# Altium integrated library Analog Devices Data Converters Analog-to-Digital Converters.IntLib: 2404 symbols (part 101 of 346)
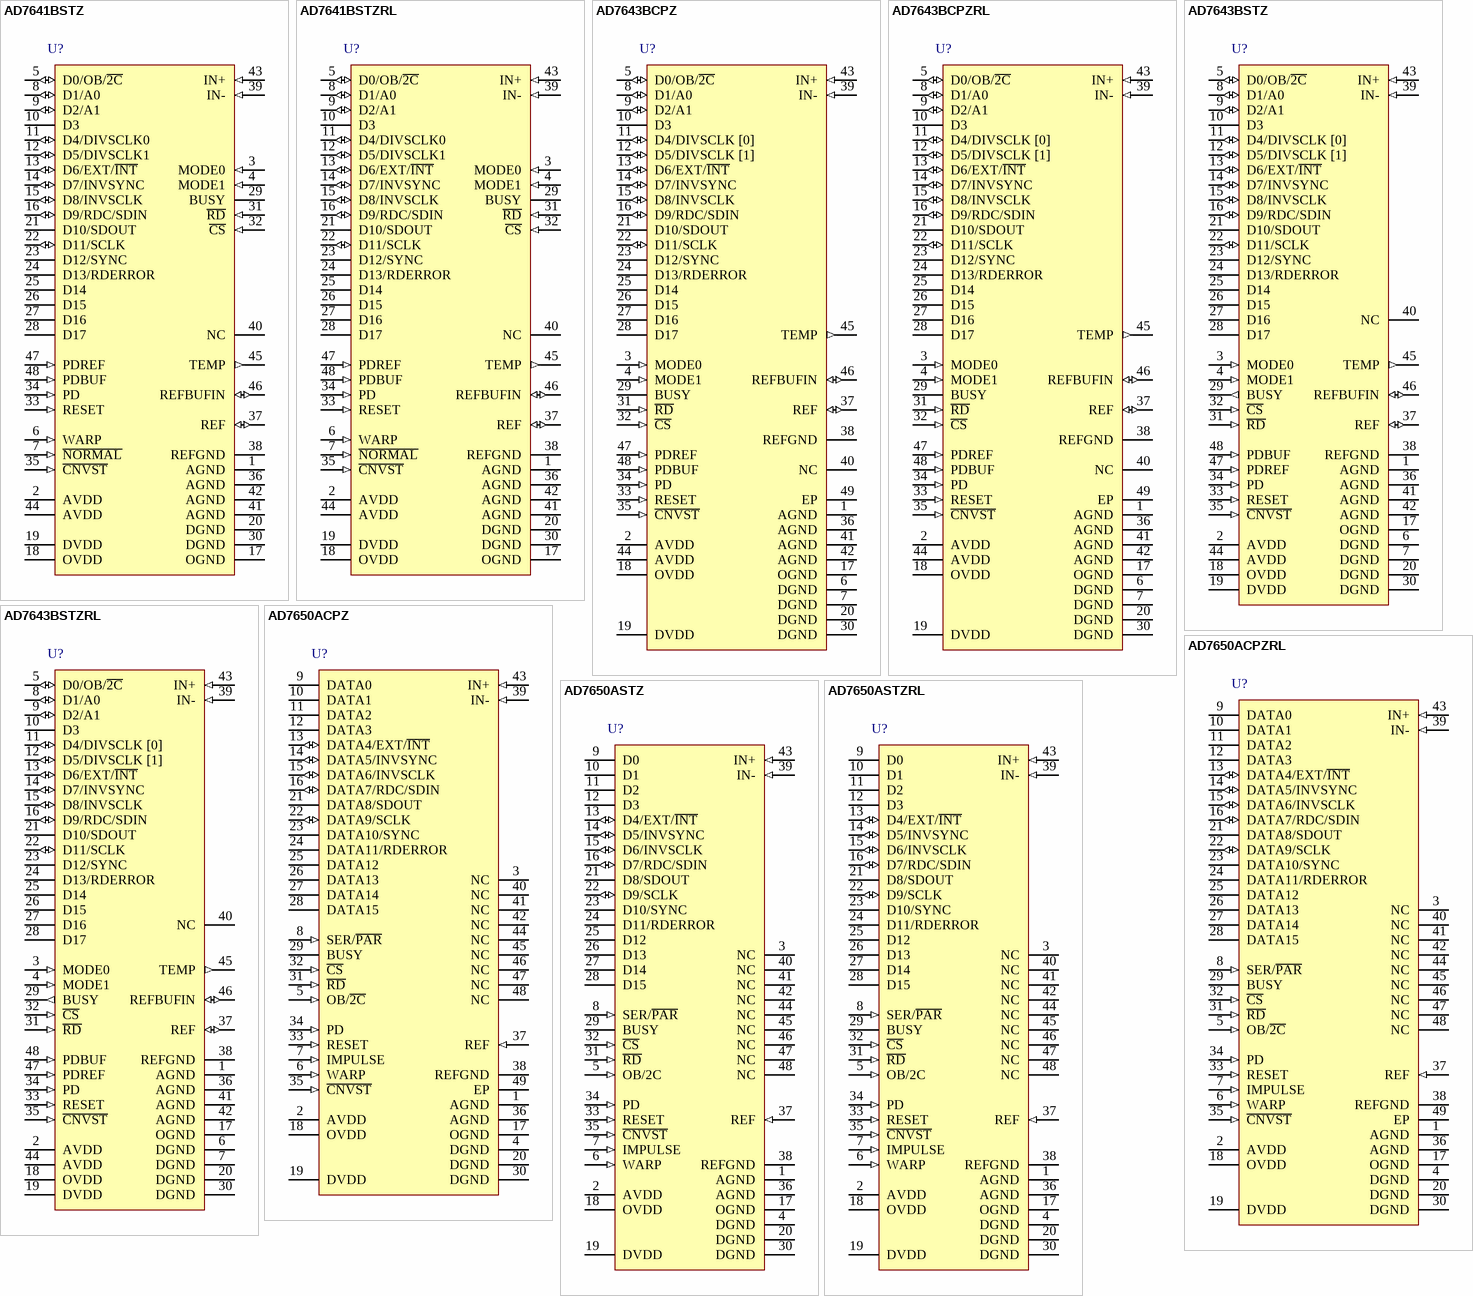
[diagram p212: symbols AD7641BSTZ to AD7650ASTZRL]

## AD7643BCPZ
designator U?
Single 18-Bit PulSAR Analog-to-Digital Converter with Byte, Parallel, Serial, SPI Interface, 1.25MSPS, -40 to +85 degC, CP-48-1, Pb-Free, Tray; Generic Part Number: AD7643; Manufacturer: Analog Devices; PartNumber: AD7643BCPZ; Resolution (Bits): 18; Channels: 1; Throughput Rate (SPS): 1.25M; Interface: Byte, Par, Ser, SPI; DatasheetVersion: Rev.0; PackageVersion: Jan-2005; PackageReference: CP-48-1; PackageDescription: 48-Lead Lead Frame Chip Scale Package [LFCSP_VQ] 7 x 7 mm Body, Very Thin Quad; Supplier 1: Digi-Key; Supplier Part Number 1: AD7643BCPZ-ND; Supplier 2: Newark; Supplier Part Number 2: 19M1195; Supplier 3: Mouser; Supplier Part Number 3: 584-AD7643BCPZ; RoHS: Y; Packing: Tray; Mounting Technology: Surface Mount; Code_JEDEC: MO-220-VKKD-2; ComponentLink1Description: Manufacturer URL; ComponentLink1URL: http://www.analog.com/en/index.html; ComponentLink2Description: Datasheet; ComponentLink2URL: http://www.analog.com/static/imported-files/data_sheets/AD7643.pdf; ComponentLink3Description: Package Specification; ComponentLink3URL: http://www.analog.com/static/imported-files/packages/PKG_PDF/LFCSP(CP)/CP-48/CP_48_1.pdf; ComponentLink4Description: Product URL; ComponentLink4URL: http://www.analog.com/en/analog-to-digital-converters/ad-converters/ad7643/products/product.html
footprint CP-48-1_N (QFN, 48-Leads, Body 7x7mm, Pitch 0.5mm, Thermal Pad 5.1x5.1mm, IPC Medium Density)
footprint CP-48-1_L (QFN, 48-Leads, Body 7x7mm, Pitch 0.5mm, Thermal Pad 5.1x5.1mm, IPC High Density)
footprint CP-48-1_M (QFN, 48-Leads, Body 7x7mm, Pitch 0.5mm, Thermal Pad 5.1x5.1mm, IPC Low Density)
pins: 1 AGND (power) "Analog Power Ground Pin.", 2 AVDD (power) "Input Analog Power Pins. Nominally 2.5 V.", 3 MODE0 (in) "Data Output Interface Mode Selection.", 4 MODE1 (in) "Data Output Interface Mode Selection.", 5 D0/OB/~{2C} (io) "When MODE[1:0] = 0 (18-bit interface mode), this pin is Bit 0 of the parallel port data output bus and the data coding is straight binary. In all other modes, this pin allows the choice of straight binary/twos complement. (See Datasheet)", 6 DGND (power) "Connect to Digital Ground.", 7 DGND (power) "Connect to Digital Ground.", 8 D1/A0 (io) "When MODE[1:0] = 0, this pin is Bit 1 of the parallel port data output bus. In all other modes, this input pin controls the form in which data is output as shown in Table 7.", 9 D2/A1 (io) "When MODE[1:0] = 0, this pin is Bit 2 of the parallel port data output bus.When MODE[1:0] = 1 or 2, this input pin controls the form in which data is output as shown in Table 7.", 10 D3 (hiz) "When MODE[1:0] = 0, 1, or 2, this output is used as Bit 3 of the parallel port data output bus. This pin is always an output, regardless of the interface mode.", 11 D4/DIVSCLK [0] (io) "When MODE[1:0] = 0, 1, or 2, these pins are Bit 4 and Bit 5 of the parallel port data output bus.When MODE[1:0] = 3 (serial mode), serial clock division selection. When using serial master read after convert mode (EXT/I\N\T\ (See Datasheet)", 12 D5/DIVSCLK [1] (io) "When MODE[1:0] = 0, 1, or 2, these pins are Bit 4 and Bit 5 of the parallel port data output bus.When MODE[1:0] = 3 (serial mode), serial clock division selection. When using serial master read after convert mode (EXT/I\N\T\ (See Datasheet)", 13 D6/EXT/~{INT} (io) "When MODE[1:0] = 0, 1, or 2, this output is used as Bit 6 of the parallel port data output bus.When MODE[1:0] = 3 (serial mode), serial clock source select. This input is used to select the internally generated (master) or (See Datasheet)", 14 D7/INVSYNC (io) "When MODE[1:0] = 0, 1, or 2, this output is used as Bit 7 of the parallel port data output bus.When MODE[1:0] = 3 (serial mode), invert sync select. In serial master mode (EXT/I\N\T\ = low), this input is used to select the (See Datasheet)", 15 D8/INVSCLK (io) "When MODE[1:0] = 0, 1, or 2, this output is used as Bit 8 of the parallel port data output bus.When MODE[1:0] = 3 (serial mode), invert SCLK select. In all serial modes, this input is used to invert the SCLK signal.", 16 D9/RDC/SDIN (io) "When MODE[1:0] = 0, 1, or 2, this output is used as bit 9 of the parallel port data output bus.When MODE[1:0] = 3 (serial mode), read during convert. When using serial master mode (EXT/I\N\T\ = low), RDC is used to select (See Datasheet)", 17 OGND (power) "Input/Output Interface Digital Power Ground.", 18 OVDD (power) "Input/Output Interface Digital Power. Nominally at the same supply as the supply of the host interface (2.5 V or 3 V).", 19 DVDD (power) "Digital Power. Nominally at 2.5 V.", 20 DGND (power) "Digital Power Ground.", 21 D10/SDOUT (hiz) "When MODE[1:0] = 0, 1, or 2, this output is used as Bit 10 of the parallel port data output bus.When MODE[1:0] = 3 (serial mode), serial data output. In serial mode, this pin is used as the serial data output synchronized to (See Datasheet)", 22 D11/SCLK (io) "When MODE[1:0] = 0, 1, or 2, this output is used as Bit 11 of the parallel port data output bus.When MODE[1:0] = 3 (serial mode), serial clock. In all serial modes, this pin is used as the serial data clock input or output, (See Datasheet)", 23 D12/SYNC (hiz) "When MODE[1:0] = 0, 1, or 2, this output is used as Bit 12 of the parallel port data output bus.When MODE[1:0] = 3 (serial mode), frame synchronization. In serial master mode (EXT/I\N\T\= low), this output is used as a (See Datasheet)", 24 D13/RDERROR (hiz) "When MODE[1:0] = 0, 1, or 2, this output is used as Bit 13 of the parallel port data output bus.When MODE[1:0] = 3 (serial mode), read error. In serial slave mode (EXT/I\N\T\ = high), this output is used as an incomplete (See Datasheet)", 25 D14 (hiz) "Bit 14 of the Parallel Port Data Output Bus. These pins are always outputs, regardless of the interface mode.", 26 D15 (hiz) "Bit 15 of the Parallel Port Data Output Bus. These pins are always outputs, regardless of the interface mode.", 27 D16 (hiz) "Bit 16 of the Parallel Port Data Output Bus. These pins are always outputs, regardless of the interface mode.", 28 D17 (hiz) "Bit 17 of the Parallel Port Data Output Bus. These pins are always outputs, regardless of the interface mode.", 29 BUSY (hiz) "Busy Output. Transitions high when a conversion is started and remains high until the conversion is complete and the data is latched into the on-chip shift register. The falling edge of BUSY can be used as a data-ready clock (See Datasheet)", 30 DGND (power) "Digital Power Ground.", 31 ~{RD} (in) "Read Data. When C\S\ and R\D\ are both low, the interface parallel or serial output bus is enabled.", 32 ~{CS} (in) "Chip Select. When C\S\ and R\D\ are both low, the interface parallel or serial output bus is enabled. C\S\ is also used to gate the external clock in slave serial mode.", 33 RESET (in) "Reset Input. When high, resets the AD7643. Current conversion, if any, is aborted. Falling edge of RESET enables the calibration mode indicated by pulsing BUSY high. Refer to the Digital Interface section. If not used, this (See Datasheet)", 34 PD (in) "Power-Down Input. When high, powers down the ADC. Power consumption is reduced and conversions are inhibited after the current one is completed.", 35 ~{CNVST} (in) "Conversion Start. A falling edge on C\N\V\S\T\ puts the internal sample-and-hold into the hold state and initiates a conversion.", 36 AGND (power) "Analog Power Ground Pin.", 37 REF (io) "Reference Output/Input.When PDREF/PDBUF = low, the internal reference and buffer are enabled producing 2.048 V on this pin.When PDREF/PDBUF = high, the internal reference and buffer are disabled allowing an externally (See Datasheet)", 38 REFGND (power) "Reference Input Analog Ground.", 39 IN- (in) "Differential Negative Analog Input.", 40 NC "No Connect.", 41 AGND (power) "Analog Power Ground Pin.", 42 AGND (power) "Analog Power Ground Pin.", 43 IN+ (in) "Differential Positive Analog Input.", 44 AVDD (power) "Input Analog Power Pins. Nominally 2.5 V.", 45 TEMP (out) "Temperature Sensor Analog Output. Normally, 278 mV @ 25degreesC with a temperature coefficient of 1 mV/degreesC. This pin can be used to measure the temperature of the AD7643. See the Temperature Sensor section.", 46 REFBUFIN (io) "Internal Reference Output/Reference Buffer Input.When PDREF/PDBUF = low, the internal reference and buffer are enabled producing the 1.2 V (typical) band gap output on this pin, which needs external decoupling. The internal (See Datasheet)", 47 PDREF (in) "Internal Reference Power-Down Input.When low, the internal reference is enabled.When high, the internal reference is powered down and an external reference must been used.", 48 PDBUF (in) "Internal Reference Buffer Power-Down Input.When low, the buffer is enabled (must be low when using internal reference).When high, the buffer is powered down.", 49 EP (power) "Paddle connected to AGND.This connection is notrequiredto meet the electrical performances."

## AD7643BCPZRL
designator U?
Single 18-Bit PulSAR Analog-to-Digital Converter with Byte, Parallel, Serial, SPI Interface, 1.25MSPS, -40 to +85 degC, CP-48-1, Pb-Free, Reel; Generic Part Number: AD7643; Manufacturer: Analog Devices; PartNumber: AD7643BCPZRL; Resolution (Bits): 18; Channels: 1; Throughput Rate (SPS): 1.25M; Interface: Byte, Par, Ser, SPI; DatasheetVersion: Rev.0; PackageVersion: Jan-2005; PackageReference: CP-48-1; PackageDescription: 48-Lead Lead Frame Chip Scale Package [LFCSP_VQ] 7 x 7 mm Body, Very Thin Quad; Supplier 1: Digi-Key; Supplier Part Number 1: AD7643BCPZRL-ND; Supplier 2: Mouser; Supplier Part Number 2: 584-AD7643BCPZR; RoHS: Y; Packing: Reel; Mounting Technology: Surface Mount; Code_JEDEC: MO-220-VKKD-2; ComponentLink1Description: Manufacturer URL; ComponentLink1URL: http://www.analog.com/en/index.html; ComponentLink2Description: Datasheet; ComponentLink2URL: http://www.analog.com/static/imported-files/data_sheets/AD7643.pdf; ComponentLink3Description: Package Specification; ComponentLink3URL: http://www.analog.com/static/imported-files/packages/PKG_PDF/LFCSP(CP)/CP-48/CP_48_1.pdf; ComponentLink4Description: Product URL; ComponentLink4URL: http://www.analog.com/en/analog-to-digital-converters/ad-converters/ad7643/products/product.html
footprint CP-48-1_N (QFN, 48-Leads, Body 7x7mm, Pitch 0.5mm, Thermal Pad 5.1x5.1mm, IPC Medium Density)
footprint CP-48-1_L (QFN, 48-Leads, Body 7x7mm, Pitch 0.5mm, Thermal Pad 5.1x5.1mm, IPC High Density)
footprint CP-48-1_M (QFN, 48-Leads, Body 7x7mm, Pitch 0.5mm, Thermal Pad 5.1x5.1mm, IPC Low Density)
pins: 1 AGND (power) "Analog Power Ground Pin.", 2 AVDD (power) "Input Analog Power Pins. Nominally 2.5 V.", 3 MODE0 (in) "Data Output Interface Mode Selection.", 4 MODE1 (in) "Data Output Interface Mode Selection.", 5 D0/OB/~{2C} (io) "When MODE[1:0] = 0 (18-bit interface mode), this pin is Bit 0 of the parallel port data output bus and the data coding is straight binary. In all other modes, this pin allows the choice of straight binary/twos complement. (See Datasheet)", 6 DGND (power) "Connect to Digital Ground.", 7 DGND (power) "Connect to Digital Ground.", 8 D1/A0 (io) "When MODE[1:0] = 0, this pin is Bit 1 of the parallel port data output bus. In all other modes, this input pin controls the form in which data is output as shown in Table 7.", 9 D2/A1 (io) "When MODE[1:0] = 0, this pin is Bit 2 of the parallel port data output bus.When MODE[1:0] = 1 or 2, this input pin controls the form in which data is output as shown in Table 7.", 10 D3 (hiz) "When MODE[1:0] = 0, 1, or 2, this output is used as Bit 3 of the parallel port data output bus. This pin is always an output, regardless of the interface mode.", 11 D4/DIVSCLK [0] (io) "When MODE[1:0] = 0, 1, or 2, these pins are Bit 4 and Bit 5 of the parallel port data output bus.When MODE[1:0] = 3 (serial mode), serial clock division selection. When using serial master read after convert mode (EXT/I\N\T\ (See Datasheet)", 12 D5/DIVSCLK [1] (io) "When MODE[1:0] = 0, 1, or 2, these pins are Bit 4 and Bit 5 of the parallel port data output bus.When MODE[1:0] = 3 (serial mode), serial clock division selection. When using serial master read after convert mode (EXT/I\N\T\ (See Datasheet)", 13 D6/EXT/~{INT} (io) "When MODE[1:0] = 0, 1, or 2, this output is used as Bit 6 of the parallel port data output bus.When MODE[1:0] = 3 (serial mode), serial clock source select. This input is used to select the internally generated (master) or (See Datasheet)", 14 D7/INVSYNC (io) "When MODE[1:0] = 0, 1, or 2, this output is used as Bit 7 of the parallel port data output bus.When MODE[1:0] = 3 (serial mode), invert sync select. In serial master mode (EXT/I\N\T\ = low), this input is used to select the (See Datasheet)", 15 D8/INVSCLK (io) "When MODE[1:0] = 0, 1, or 2, this output is used as Bit 8 of the parallel port data output bus.When MODE[1:0] = 3 (serial mode), invert SCLK select. In all serial modes, this input is used to invert the SCLK signal.", 16 D9/RDC/SDIN (io) "When MODE[1:0] = 0, 1, or 2, this output is used as bit 9 of the parallel port data output bus.When MODE[1:0] = 3 (serial mode), read during convert. When using serial master mode (EXT/I\N\T\ = low), RDC is used to select (See Datasheet)", 17 OGND (power) "Input/Output Interface Digital Power Ground.", 18 OVDD (power) "Input/Output Interface Digital Power. Nominally at the same supply as the supply of the host interface (2.5 V or 3 V).", 19 DVDD (power) "Digital Power. Nominally at 2.5 V.", 20 DGND (power) "Digital Power Ground.", 21 D10/SDOUT (hiz) "When MODE[1:0] = 0, 1, or 2, this output is used as Bit 10 of the parallel port data output bus.When MODE[1:0] = 3 (serial mode), serial data output. In serial mode, this pin is used as the serial data output synchronized to (See Datasheet)", 22 D11/SCLK (io) "When MODE[1:0] = 0, 1, or 2, this output is used as Bit 11 of the parallel port data output bus.When MODE[1:0] = 3 (serial mode), serial clock. In all serial modes, this pin is used as the serial data clock input or output, (See Datasheet)", 23 D12/SYNC (hiz) "When MODE[1:0] = 0, 1, or 2, this output is used as Bit 12 of the parallel port data output bus.When MODE[1:0] = 3 (serial mode), frame synchronization. In serial master mode (EXT/I\N\T\= low), this output is used as a (See Datasheet)", 24 D13/RDERROR (hiz) "When MODE[1:0] = 0, 1, or 2, this output is used as Bit 13 of the parallel port data output bus.When MODE[1:0] = 3 (serial mode), read error. In serial slave mode (EXT/I\N\T\ = high), this output is used as an incomplete (See Datasheet)", 25 D14 (hiz) "Bit 14 of the Parallel Port Data Output Bus. These pins are always outputs, regardless of the interface mode.", 26 D15 (hiz) "Bit 15 of the Parallel Port Data Output Bus. These pins are always outputs, regardless of the interface mode.", 27 D16 (hiz) "Bit 16 of the Parallel Port Data Output Bus. These pins are always outputs, regardless of the interface mode.", 28 D17 (hiz) "Bit 17 of the Parallel Port Data Output Bus. These pins are always outputs, regardless of the interface mode.", 29 BUSY (hiz) "Busy Output. Transitions high when a conversion is started and remains high until the conversion is complete and the data is latched into the on-chip shift register. The falling edge of BUSY can be used as a data-ready clock (See Datasheet)", 30 DGND (power) "Digital Power Ground.", 31 ~{RD} (in) "Read Data. When C\S\ and R\D\ are both low, the interface parallel or serial output bus is enabled.", 32 ~{CS} (in) "Chip Select. When C\S\ and R\D\ are both low, the interface parallel or serial output bus is enabled. C\S\ is also used to gate the external clock in slave serial mode.", 33 RESET (in) "Reset Input. When high, resets the AD7643. Current conversion, if any, is aborted. Falling edge of RESET enables the calibration mode indicated by pulsing BUSY high. Refer to the Digital Interface section. If not used, this (See Datasheet)", 34 PD (in) "Power-Down Input. When high, powers down the ADC. Power consumption is reduced and conversions are inhibited after the current one is completed.", 35 ~{CNVST} (in) "Conversion Start. A falling edge on C\N\V\S\T\ puts the internal sample-and-hold into the hold state and initiates a conversion.", 36 AGND (power) "Analog Power Ground Pin.", 37 REF (io) "Reference Output/Input.When PDREF/PDBUF = low, the internal reference and buffer are enabled producing 2.048 V on this pin.When PDREF/PDBUF = high, the internal reference and buffer are disabled allowing an externally (See Datasheet)", 38 REFGND (power) "Reference Input Analog Ground.", 39 IN- (in) "Differential Negative Analog Input.", 40 NC "No Connect.", 41 AGND (power) "Analog Power Ground Pin.", 42 AGND (power) "Analog Power Ground Pin.", 43 IN+ (in) "Differential Positive Analog Input.", 44 AVDD (power) "Input Analog Power Pins. Nominally 2.5 V.", 45 TEMP (out) "Temperature Sensor Analog Output. Normally, 278 mV @ 25degreesC with a temperature coefficient of 1 mV/degreesC. This pin can be used to measure the temperature of the AD7643. See the Temperature Sensor section.", 46 REFBUFIN (io) "Internal Reference Output/Reference Buffer Input.When PDREF/PDBUF = low, the internal reference and buffer are enabled producing the 1.2 V (typical) band gap output on this pin, which needs external decoupling. The internal (See Datasheet)", 47 PDREF (in) "Internal Reference Power-Down Input.When low, the internal reference is enabled.When high, the internal reference is powered down and an external reference must been used.", 48 PDBUF (in) "Internal Reference Buffer Power-Down Input.When low, the buffer is enabled (must be low when using internal reference).When high, the buffer is powered down.", 49 EP (power) "Paddle connected to AGND.This connection is notrequiredto meet the electrical performances."

## AD7643BSTZ
designator U?
Single 18-Bit PulSAR Analog-to-Digital Converter with Byte, Parallel, Serial, SPI Interface, 1.25MSPS, -40 to +85 degC, ST-48, Pb-Free, Tray; Generic Part Number: AD7643; Manufacturer: Analog Devices; PartNumber: AD7643BSTZ; Resolution (Bits): 18; Channels: 1; Throughput Rate (SPS): 1.25M; Interface: Byte, Par, Ser, SPI; DatasheetVersion: Rev.0; PackageVersion: revA; PackageReference: ST-48; PackageDescription: 48-Pin Thin Quad Flat Pack 0.5 mm Pitch; Supplier 1: Digi-Key; Supplier Part Number 1: AD7643BSTZ-ND; Supplier 2: Farnell; Supplier Part Number 2: 1274236; Supplier 3: Mouser; Supplier Part Number 3: 584-AD7643BSTZ; RoHS: Y; Packing: Tray; Mounting Technology: Surface Mount; ComponentLink1Description: Manufacturer URL; ComponentLink1URL: http://www.analog.com/en/index.html; ComponentLink2Description: Datasheet; ComponentLink2URL: http://www.analog.com/static/imported-files/data_sheets/AD7643.pdf; ComponentLink3Description: Package Specification; ComponentLink3URL: http://www.analog.com/static/imported-files/packages/PKG_PDF/LQFP%28ST%29/ST_48.pdf; ComponentLink4Description: Product URL; ComponentLink4URL: http://www.analog.com/en/analog-to-digital-converters/ad-converters/ad7643/products/product.html
footprint ST-48_N (Thin QFP, 48-Leads, Body 7x7mm, Pitch 0.5mm, IPC Medium Density)
footprint ST-48_L (Thin QFP, 48-Leads, Body 7x7mm, Pitch 0.5mm, IPC High Density)
footprint ST-48_M (Thin QFP, 48-Leads, Body 7x7mm, Pitch 0.5mm, IPC Low Density)
pins: 1 AGND (power) "Analog Power Ground Pin.", 2 AVDD (power) "Input Analog Power Pins. Nominally 2.5 V.", 3 MODE0 (in) "Data Output Interface Mode Selection.", 4 MODE1 (in) "Data Output Interface Mode Selection.", 5 D0/OB/~{2C} (io) "When MODE[1:0] = 0 (18-bit interface mode), this pin is Bit 0 of the parallel port data output bus and the data coding is straight binary. In all other modes, this pin allows the choice of straight binary/twos complement. (See Datasheet)", 6 DGND (power) "Connect to Digital Ground.", 7 DGND (power) "Connect to Digital Ground.", 8 D1/A0 (io) "When MODE[1:0] = 0, this pin is Bit 1 of the parallel port data output bus. In all other modes, this input pin controls the form in which data is output as shown in Table 7.", 9 D2/A1 (io) "When MODE[1:0] = 0, this pin is Bit 2 of the parallel port data output bus.When MODE[1:0] = 1 or 2, this input pin controls the form in which data is output as shown in Table 7.", 10 D3 (hiz) "When MODE[1:0] = 0, 1, or 2, this output is used as Bit 3 of the parallel port data output bus. This pin is always an output, regardless of the interface mode.", 11 D4/DIVSCLK [0] (io) "When MODE[1:0] = 0, 1, or 2, these pins are Bit 4 and Bit 5 of the parallel port data output bus.When MODE[1:0] = 3 (serial mode), serial clock division selection. When using serial master read after convert mode (EXT/I\N\T\ (See Datasheet)", 12 D5/DIVSCLK [1] (io) "When MODE[1:0] = 0, 1, or 2, these pins are Bit 4 and Bit 5 of the parallel port data output bus.When MODE[1:0] = 3 (serial mode), serial clock division selection. When using serial master read after convert mode (EXT/I\N\T\ (See Datasheet)", 13 D6/EXT/~{INT} (io) "When MODE[1:0] = 0, 1, or 2, this output is used as Bit 6 of the parallel port data output bus.When MODE[1:0] = 3 (serial mode), serial clock source select. This input is used to select the internally generated (master) or (See Datasheet)", 14 D7/INVSYNC (io) "When MODE[1:0] = 0, 1, or 2, this output is used as Bit 7 of the parallel port data output bus.When MODE[1:0] = 3 (serial mode), invert sync select. In serial master mode (EXT/I\N\T\ = low), this input is used to select the (See Datasheet)", 15 D8/INVSCLK (io) "When MODE[1:0] = 0, 1, or 2, this output is used as Bit 8 of the parallel port data output bus.When MODE[1:0] = 3 (serial mode), invert SCLK select. In all serial modes, this input is used to invert the SCLK signal.", 16 D9/RDC/SDIN (io) "When MODE[1:0] = 0, 1, or 2, this output is used as bit 9 of the parallel port data output bus.When MODE[1:0] = 3 (serial mode), read during convert. When using serial master mode (EXT/I\N\T\ = low), RDC is used to select (See Datasheet)", 17 OGND (power) "Input/Output Interface Digital Power Ground.", 18 OVDD (power) "Input/Output Interface Digital Power. Nominally at the same supply as the supply of the host interface (2.5 V or 3 V).", 19 DVDD (power) "Digital Power. Nominally at 2.5 V.", 20 DGND (power) "Digital Power Ground.", 21 D10/SDOUT (hiz) "When MODE[1:0] = 0, 1, or 2, this output is used as Bit 10 of the parallel port data output bus.When MODE[1:0] = 3 (serial mode), serial data output. In serial mode, this pin is used as the serial data output synchronized to (See Datasheet)", 22 D11/SCLK (io) "When MODE[1:0] = 0, 1, or 2, this output is used as Bit 11 of the parallel port data output bus.When MODE[1:0] = 3 (serial mode), serial clock. In all serial modes, this pin is used as the serial data clock input or output, (See Datasheet)", 23 D12/SYNC (hiz) "When MODE[1:0] = 0, 1, or 2, this output is used as Bit 12 of the parallel port data output bus.When MODE[1:0] = 3 (serial mode), frame synchronization. In serial master mode (EXT/I\N\T\= low), this output is used as a (See Datasheet)", 24 D13/RDERROR (hiz) "When MODE[1:0] = 0, 1, or 2, this output is used as Bit 13 of the parallel port data output bus.When MODE[1:0] = 3 (serial mode), read error. In serial slave mode (EXT/I\N\T\ = high), this output is used as an incomplete (See Datasheet)", 25 D14 (hiz) "Bit 14 of the Parallel Port Data Output Bus. These pins are always outputs, regardless of the interface mode.", 26 D15 (hiz) "Bit 15 of the Parallel Port Data Output Bus. These pins are always outputs, regardless of the interface mode.", 27 D16 (hiz) "Bit 16 of the Parallel Port Data Output Bus. These pins are always outputs, regardless of the interface mode.", 28 D17 (hiz) "Bit 17 of the Parallel Port Data Output Bus. These pins are always outputs, regardless of the interface mode.", 29 BUSY (out) "Busy Output. Transitions high when a conversion is started and remains high until the conversion is complete and the data is latched into the on-chip shift register. The falling edge of BUSY can be used as a data-ready clock (See Datasheet)", 30 DGND (power) "Digital Power Ground.", 31 ~{RD} (in) "Read Data. When C\S\ and R\D\ are both low, the interface parallel or serial output bus is enabled.", 32 ~{CS} (in) "Chip Select. When C\S\ and R\D\ are both low, the interface parallel or serial output bus is enabled. C\S\ is also used to gate the external clock in slave serial mode.", 33 RESET (in) "Reset Input. When high, resets the AD7643. Current conversion, if any, is aborted. Falling edge of RESET enables the calibration mode indicated by pulsing BUSY high. Refer to the Digital Interface section. If not used, this (See Datasheet)", 34 PD (in) "Power-Down Input. When high, powers down the ADC. Power consumption is reduced and conversions are inhibited after the current one is completed.", 35 ~{CNVST} (in) "Conversion Start. A falling edge on C\N\V\S\T\ puts the internal sample-and-hold into the hold state and initiates a conversion.", 36 AGND (power) "Analog Power Ground Pin.", 37 REF (io) "Reference Output/Input.When PDREF/PDBUF = low, the internal reference and buffer are enabled producing 2.048 V on this pin.When PDREF/PDBUF = high, the internal reference and buffer are disabled allowing an externally (See Datasheet)", 38 REFGND (power) "Reference Input Analog Ground.", 39 IN- (in) "Differential Negative Analog Input.", 40 NC "No Connect.", 41 AGND (power) "Analog Power Ground Pin.", 42 AGND (power) "Analog Power Ground Pin.", 43 IN+ (in) "Differential Positive Analog Input.", 44 AVDD (power) "Input Analog Power Pins. Nominally 2.5 V.", 45 TEMP (out) "Temperature Sensor Analog Output. Normally, 278 mV @ 25degreesC with a temperature coefficient of 1 mV/degreesC. This pin can be used to measure the temperature of the AD7643. See the Temperature Sensor section.", 46 REFBUFIN (io) "Internal Reference Output/Reference Buffer Input.When PDREF/PDBUF = low, the internal reference and buffer are enabled producing the 1.2 V (typical) band gap output on this pin, which needs external decoupling. The internal (See Datasheet)", 47 PDREF (in) "Internal Reference Power-Down Input.When low, the internal reference is enabled.When high, the internal reference is powered down and an external reference must been used.", 48 PDBUF (in) "Internal Reference Buffer Power-Down Input.When low, the buffer is enabled (must be low when using internal reference).When high, the buffer is powered down."

## AD7643BSTZRL
designator U?
Single 18-Bit PulSAR Analog-to-Digital Converter with Byte, Parallel, Serial, SPI Interface, 1.25MSPS, -40 to +85 degC, ST-48, Pb-Free, Reel; Generic Part Number: AD7643; Manufacturer: Analog Devices; PartNumber: AD7643BSTZRL; Resolution (Bits): 18; Channels: 1; Throughput Rate (SPS): 1.25M; Interface: Byte, Par, Ser, SPI; DatasheetVersion: Rev.0; PackageVersion: revA; PackageReference: ST-48; PackageDescription: 48-Pin Thin Quad Flat Pack 0.5 mm Pitch; Supplier 1: Digi-Key; Supplier Part Number 1: AD7643BSTZRL-ND; Supplier 2: Mouser; Supplier Part Number 2: 584-AD7643BSTZR; RoHS: Y; Packing: Reel; Mounting Technology: Surface Mount; ComponentLink1Description: Manufacturer URL; ComponentLink1URL: http://www.analog.com/en/index.html; ComponentLink2Description: Datasheet; ComponentLink2URL: http://www.analog.com/static/imported-files/data_sheets/AD7643.pdf; ComponentLink3Description: Package Specification; ComponentLink3URL: http://www.analog.com/static/imported-files/packages/PKG_PDF/LQFP%28ST%29/ST_48.pdf; ComponentLink4Description: Product URL; ComponentLink4URL: http://www.analog.com/en/analog-to-digital-converters/ad-converters/ad7643/products/product.html
footprint ST-48_N (Thin QFP, 48-Leads, Body 7x7mm, Pitch 0.5mm, IPC Medium Density)
footprint ST-48_L (Thin QFP, 48-Leads, Body 7x7mm, Pitch 0.5mm, IPC High Density)
footprint ST-48_M (Thin QFP, 48-Leads, Body 7x7mm, Pitch 0.5mm, IPC Low Density)
pins: 1 AGND (power) "Analog Power Ground Pin.", 2 AVDD (power) "Input Analog Power Pins. Nominally 2.5 V.", 3 MODE0 (in) "Data Output Interface Mode Selection.", 4 MODE1 (in) "Data Output Interface Mode Selection.", 5 D0/OB/~{2C} (io) "When MODE[1:0] = 0 (18-bit interface mode), this pin is Bit 0 of the parallel port data output bus and the data coding is straight binary. In all other modes, this pin allows the choice of straight binary/twos complement. (See Datasheet)", 6 DGND (power) "Connect to Digital Ground.", 7 DGND (power) "Connect to Digital Ground.", 8 D1/A0 (io) "When MODE[1:0] = 0, this pin is Bit 1 of the parallel port data output bus. In all other modes, this input pin controls the form in which data is output as shown in Table 7.", 9 D2/A1 (io) "When MODE[1:0] = 0, this pin is Bit 2 of the parallel port data output bus.When MODE[1:0] = 1 or 2, this input pin controls the form in which data is output as shown in Table 7.", 10 D3 (hiz) "When MODE[1:0] = 0, 1, or 2, this output is used as Bit 3 of the parallel port data output bus. This pin is always an output, regardless of the interface mode.", 11 D4/DIVSCLK [0] (io) "When MODE[1:0] = 0, 1, or 2, these pins are Bit 4 and Bit 5 of the parallel port data output bus.When MODE[1:0] = 3 (serial mode), serial clock division selection. When using serial master read after convert mode (EXT/I\N\T\ (See Datasheet)", 12 D5/DIVSCLK [1] (io) "When MODE[1:0] = 0, 1, or 2, these pins are Bit 4 and Bit 5 of the parallel port data output bus.When MODE[1:0] = 3 (serial mode), serial clock division selection. When using serial master read after convert mode (EXT/I\N\T\ (See Datasheet)", 13 D6/EXT/~{INT} (io) "When MODE[1:0] = 0, 1, or 2, this output is used as Bit 6 of the parallel port data output bus.When MODE[1:0] = 3 (serial mode), serial clock source select. This input is used to select the internally generated (master) or (See Datasheet)", 14 D7/INVSYNC (io) "When MODE[1:0] = 0, 1, or 2, this output is used as Bit 7 of the parallel port data output bus.When MODE[1:0] = 3 (serial mode), invert sync select. In serial master mode (EXT/I\N\T\ = low), this input is used to select the (See Datasheet)", 15 D8/INVSCLK (io) "When MODE[1:0] = 0, 1, or 2, this output is used as Bit 8 of the parallel port data output bus.When MODE[1:0] = 3 (serial mode), invert SCLK select. In all serial modes, this input is used to invert the SCLK signal.", 16 D9/RDC/SDIN (io) "When MODE[1:0] = 0, 1, or 2, this output is used as bit 9 of the parallel port data output bus.When MODE[1:0] = 3 (serial mode), read during convert. When using serial master mode (EXT/I\N\T\ = low), RDC is used to select (See Datasheet)", 17 OGND (power) "Input/Output Interface Digital Power Ground.", 18 OVDD (power) "Input/Output Interface Digital Power. Nominally at the same supply as the supply of the host interface (2.5 V or 3 V).", 19 DVDD (power) "Digital Power. Nominally at 2.5 V.", 20 DGND (power) "Digital Power Ground.", 21 D10/SDOUT (hiz) "When MODE[1:0] = 0, 1, or 2, this output is used as Bit 10 of the parallel port data output bus.When MODE[1:0] = 3 (serial mode), serial data output. In serial mode, this pin is used as the serial data output synchronized to (See Datasheet)", 22 D11/SCLK (io) "When MODE[1:0] = 0, 1, or 2, this output is used as Bit 11 of the parallel port data output bus.When MODE[1:0] = 3 (serial mode), serial clock. In all serial modes, this pin is used as the serial data clock input or output, (See Datasheet)", 23 D12/SYNC (hiz) "When MODE[1:0] = 0, 1, or 2, this output is used as Bit 12 of the parallel port data output bus.When MODE[1:0] = 3 (serial mode), frame synchronization. In serial master mode (EXT/I\N\T\= low), this output is used as a (See Datasheet)", 24 D13/RDERROR (hiz) "When MODE[1:0] = 0, 1, or 2, this output is used as Bit 13 of the parallel port data output bus.When MODE[1:0] = 3 (serial mode), read error. In serial slave mode (EXT/I\N\T\ = high), this output is used as an incomplete (See Datasheet)", 25 D14 (hiz) "Bit 14 of the Parallel Port Data Output Bus. These pins are always outputs, regardless of the interface mode.", 26 D15 (hiz) "Bit 15 of the Parallel Port Data Output Bus. These pins are always outputs, regardless of the interface mode.", 27 D16 (hiz) "Bit 16 of the Parallel Port Data Output Bus. These pins are always outputs, regardless of the interface mode.", 28 D17 (hiz) "Bit 17 of the Parallel Port Data Output Bus. These pins are always outputs, regardless of the interface mode.", 29 BUSY (out) "Busy Output. Transitions high when a conversion is started and remains high until the conversion is complete and the data is latched into the on-chip shift register. The falling edge of BUSY can be used as a data-ready clock (See Datasheet)", 30 DGND (power) "Digital Power Ground.", 31 ~{RD} (in) "Read Data. When C\S\ and R\D\ are both low, the interface parallel or serial output bus is enabled.", 32 ~{CS} (in) "Chip Select. When C\S\ and R\D\ are both low, the interface parallel or serial output bus is enabled. C\S\ is also used to gate the external clock in slave serial mode.", 33 RESET (in) "Reset Input. When high, resets the AD7643. Current conversion, if any, is aborted. Falling edge of RESET enables the calibration mode indicated by pulsing BUSY high. Refer to the Digital Interface section. If not used, this (See Datasheet)", 34 PD (in) "Power-Down Input. When high, powers down the ADC. Power consumption is reduced and conversions are inhibited after the current one is completed.", 35 ~{CNVST} (in) "Conversion Start. A falling edge on C\N\V\S\T\ puts the internal sample-and-hold into the hold state and initiates a conversion.", 36 AGND (power) "Analog Power Ground Pin.", 37 REF (io) "Reference Output/Input.When PDREF/PDBUF = low, the internal reference and buffer are enabled producing 2.048 V on this pin.When PDREF/PDBUF = high, the internal reference and buffer are disabled allowing an externally (See Datasheet)", 38 REFGND (power) "Reference Input Analog Ground.", 39 IN- (in) "Differential Negative Analog Input.", 40 NC "No Connect.", 41 AGND (power) "Analog Power Ground Pin.", 42 AGND (power) "Analog Power Ground Pin.", 43 IN+ (in) "Differential Positive Analog Input.", 44 AVDD (power) "Input Analog Power Pins. Nominally 2.5 V.", 45 TEMP (out) "Temperature Sensor Analog Output. Normally, 278 mV @ 25degreesC with a temperature coefficient of 1 mV/degreesC. This pin can be used to measure the temperature of the AD7643. See the Temperature Sensor section.", 46 REFBUFIN (io) "Internal Reference Output/Reference Buffer Input.When PDREF/PDBUF = low, the internal reference and buffer are enabled producing the 1.2 V (typical) band gap output on this pin, which needs external decoupling. The internal (See Datasheet)", 47 PDREF (in) "Internal Reference Power-Down Input.When low, the internal reference is enabled.When high, the internal reference is powered down and an external reference must been used.", 48 PDBUF (in) "Internal Reference Buffer Power-Down Input.When low, the buffer is enabled (must be low when using internal reference).When high, the buffer is powered down."

## AD7650ACPZ
designator U?
Single 16-Bit Analog-to-Digital Converter with Parallel, Serial, SPI Interface, 570KSPS, -40 to +85 degC, CP-48-1, Pb-Free, Tray; Generic Part Number: AD7650; Manufacturer: Analog Devices; PartNumber: AD7650ACPZ; Resolution (Bits): 16; Channels: 1; Throughput Rate (SPS): 570K; Interface: Par, Ser, SPI; DatasheetVersion: Rev.0; PackageVersion: Jan-2005; PackageReference: CP-48-1; PackageDescription: 48-Lead Lead Frame Chip Scale Package [LFCSP_VQ] 7 x 7 mm Body, Very Thin Quad; Supplier 1: Digi-Key; Supplier Part Number 1: AD7650ACPZ-ND; Supplier 2: Mouser; Supplier Part Number 2: 584-AD7650ACPZ; RoHS: Y; Packing: Tray; Mounting Technology: Surface Mount; Code_JEDEC: MO-220-VKKD-2; ComponentLink1Description: Manufacturer URL; ComponentLink1URL: http://www.analog.com/en/index.html; ComponentLink2Description: Datasheet; ComponentLink2URL: http://www.analog.com/static/imported-files/data_sheets/AD7650.pdf; ComponentLink3Description: Package Specification; ComponentLink3URL: http://www.analog.com/static/imported-files/packages/PKG_PDF/LFCSP(CP)/CP-48/CP_48_1.pdf; ComponentLink4Description: Product URL; ComponentLink4URL: http://www.analog.com/en/analog-to-digital-converters/ad-converters/ad7650/products/product.html
footprint CP-48-1_N (QFN, 48-Leads, Body 7x7mm, Pitch 0.5mm, Thermal Pad 5.1x5.1mm, IPC Medium Density)
footprint CP-48-1_L (QFN, 48-Leads, Body 7x7mm, Pitch 0.5mm, Thermal Pad 5.1x5.1mm, IPC High Density)
footprint CP-48-1_M (QFN, 48-Leads, Body 7x7mm, Pitch 0.5mm, Thermal Pad 5.1x5.1mm, IPC Low Density)
pins: 1 AGND (power) "Analog Power Ground Pin", 2 AVDD (power) "Input Analog Power Pins. Nominally 5 V.", 3 NC "No Connect", 4 DGND (power) "Must be tied to the ground where DVDD is referred.", 5 OB/~{2C} (in) "Straight Binary/Binary Two’s Complement. When OB/2\C\ is HIGH, the digital output is straight binary; when LOW, the MSB is inverted resulting in a two’s complement output from its internal shift register.", 6 WARP (in) "Mode Selection. When HIGH and IMPULSE LOW, this input selects the fastest mode, the maximum throughput is achievable, and a minimum conversion rate must be applied in order to guarantee full specified accuracy. When LOW, (See Datasheet)", 7 IMPULSE (in) "Mode Selection. When HIGH and WARP LOW, this input selects a reduced power mode.In this mode, the power dissipation is approximately proportional to the sampling rate.", 8 SER/~{PAR} (in) "Serial/Parallel Selection Input. When LOW, the parallel port is selected; when HIGH, the serial interface mode is selected and some bits of the DATA bus are used as a serial port.", 9 DATA0 (hiz) "Bit 0 of the Parallel Port Data Output Bus. These pins are always outputs, regardless of the state of SER/P\A\R\.", 10 DATA1 (hiz) "Bit 1 of the Parallel Port Data Output Bus. These pins are always outputs, regardless of the state of SER/P\A\R\.", 11 DATA2 (hiz) "Bit 2 of the Parallel Port Data Output Bus. These pins are always outputs, regardless of the state of SER/P\A\R\.", 12 DATA3 (hiz) "Bit 3 of the Parallel Port Data Output Bus. These pins are always outputs, regardless of the state of SER/P\A\R\.", 13 DATA4/EXT/~{INT} (io) "When SER/P\A\R\ is LOW, this output is used as Bit 4 of the Parallel Port Data Output Bus.When SER/P\A\R\ is HIGH, this input, part of the serial port, is used as a digital select input for choosing the internal or an (See Datasheet)", 14 DATA5/INVSYNC (io) "When SER/P\A\R\ is LOW, this output is used as Bit 5 of the Parallel Port Data Output Bus.When SER/P\A\R\ is HIGH, this input, part of the serial port, is used to select the active state of the SYNC signal. It is active in (See Datasheet)", 15 DATA6/INVSCLK (io) "When SER/P\A\R\ is LOW, this output is used as Bit 6 of the Parallel Port Data Output Bus.When SER/P\A\R\ is HIGH, this input, part of the serial port, is used to invert the SCLK signal.It is active in both master and slave (See Datasheet)", 16 DATA7/RDC/SDIN (io) "When SER/P\A\R\ is LOW, this output is used as Bit 7 of the Parallel Port Data Output Bus When SER/P\A\R\ is HIGH, this input, part of the serial port, is used as either an external data input or a read mode selection input (See Datasheet)", 17 OGND (power) "Input/Output Interface Digital Power Ground", 18 OVDD (power) "Input/Output Interface Digital Power. Nominally at the same supply than the supply of the host interface (5 V or 3 V).", 19 DVDD (power) "Digital Power. Nominally at 5 V.", 20 DGND (power) "Digital Power Ground", 21 DATA8/SDOUT (hiz) "When SER/P\A\R\ is LOW, this output is used as Bit 8 of the Parallel Port Data Output Bus.When SER/P\A\R\ is HIGH, this output, part of the serial port, is used as a serial data output synchronized to SCLK. Conversion (See Datasheet)", 22 DATA9/SCLK (io) "When SER/P\A\R\ is LOW, this output is used as the Bit 9 of the Parallel Port Data Output Bus.When SER/P\A\R\ is HIGH, this pin, part of the serial port, is used as a serial data clock input or output, dependent upon the (See Datasheet)", 23 DATA10/SYNC (hiz) "When SER/P\A\R\ is LOW, this output is used as the Bit 10 of the Parallel Port Data Output Bus.When SER/P\A\R\ is HIGH, this output, part of the serial port, is used as a digital output frame synchronization for use with the (See Datasheet)", 24 DATA11/RDERROR (hiz) "When SER/P\A\R\ is LOW, this output is used as the Bit 11 of the Parallel Port Data Output Bus.When SER/P\A\R\ is HIGH and EXT/I\N\T\ is HIGH, this output, part of the serial port, is used as a incomplete read error flag. In (See Datasheet)", 25 DATA12 (hiz) "Bit 12 of the Parallel Port Data output bus. These pins are always outputs regardless of the state of SER/P\A\R\.", 26 DATA13 (hiz) "Bit 13 of the Parallel Port Data output bus. These pins are always outputs regardless of the state of SER/P\A\R\.", 27 DATA14 (hiz) "Bit 14 of the Parallel Port Data output bus. These pins are always outputs regardless of the state of SER/P\A\R\.", 28 DATA15 (hiz) "Bit 15 of the Parallel Port Data output bus. These pins are always outputs regardless of the state of SER/P\A\R\.", 29 BUSY (hiz) "Busy Output. Transitions HIGH when a conversion is started, and remains HIGH until the conversion is complete and the data is latched into the on-chip shift register. The falling edge of BUSY could be used as a data ready (See Datasheet)", 30 DGND (power) "Must Be Tied to Digital Ground", 31 ~{RD} (in) "Read Data. When C\S\ and R\D\ are both LOW, the interface parallel or serial output bus is enabled.", 32 ~{CS} (in) "Chip Select. When C\S\ and R\D\ are both LOW, the interface parallel or serial output bus is enabled. C\S\is also used to gate the external clock.", 33 RESET (in) "Reset Input. When set to a logic HIGH, reset the AD7650. Current conversion if any is aborted.If not used, this pin could be tied to DGND.", 34 PD (in) "Power-Down Input. When set to a logic HIGH, power consumption is reduced and conversions are inhibited after the current one is completed.", 35 ~{CNVST} (in) "Start Conversion. A falling edge on C\N\V\S\T\ puts the internal sample/hold into the hold state 35", 36 AGND (power) "Must Be Tied to Analog Ground", 37 REF (in) "Reference Input Voltage", 38 REFGND (power) "Reference Input Analog Ground", 39 IN- (in) "Analog Input Ground", 40 NC "No Connect", 41 NC "No Connect", 42 NC "No Connect", 43 IN+ (in) "Primary Analog Input with a Range of 0 V to VREF.", 44 NC "No Connect", 45 NC "No Connect", 46 NC "No Connect", 47 NC "No Connect", 48 NC "No Connect", 49 EP (power) "PADDLE CONNECTED TO AGND"